# Altium footprint library RXCLAMP6PIN.PcbLib: 1 footprints
Each footprint in its own frame and in the unit in brackets; x right, y up, seen from the top. Pads: shape width x height; smd on the part's side, far side on the other; paste and mask are expansions set on the pad; w line width, h text height; cw(c..) or ccw(c..) is an arc to the next point about the centre after c.
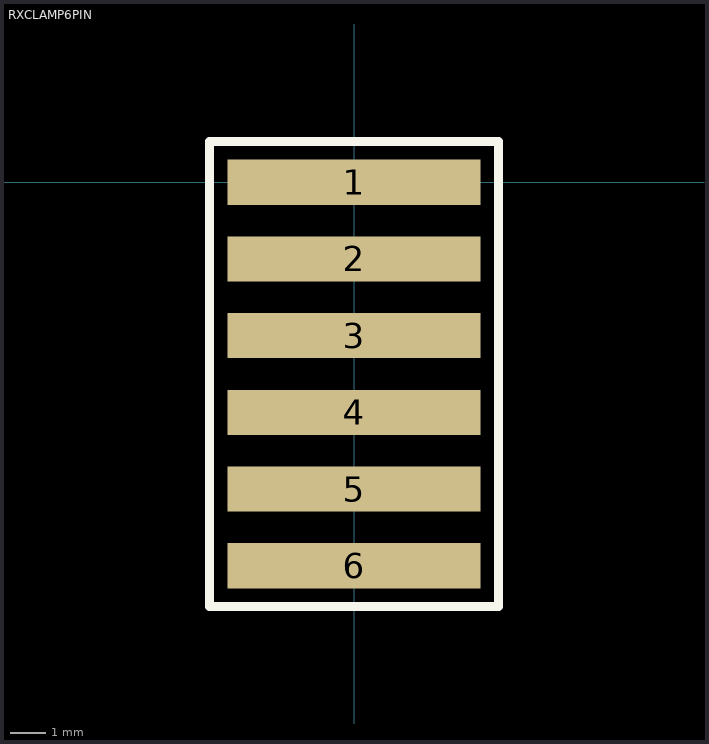
[diagram p0: the footprint, top view; thin cyan lines are the x and y axes]

## RXCLAMP6PIN [mil]
pads (6):
  rect 280x50 smd: 1(0,0) 2(0,-85) 3(0,-170) 4(0,-255) 5(0,-340) 6(0,-425)
Top Overlay:
  lines w10: -160,-470 -160,45 160,45 160,-470 -160,-470